# Altium schematic symbol library TNPW080510K0BXEN.SchLib: 1 symbol
Pins are listed as number, name and electrical type; pins without a type are passive.

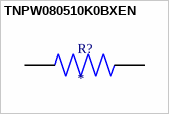
[diagram p0: symbol TNPW080510K0BXEN]

## TNPW080510K0BXEN
designator R?
10 kOhms Â±0.1% 0.125W, 1/8W Chip Resistor 0805 (2012 Metric) Anti-Sulfur, Automotive AEC-Q200, Moisture Resistant Thin Film; MF: Vishay; MP: TNPW080510K0BXEN; SnapEDA_Link: https://www.snapeda.com/parts/TNPW080510K0BXEN/Vishay/view-part/?ref=snap; Package: 2012 Vishay; Value: *; Check_prices: https://www.snapeda.com/parts/TNPW080510K0BXEN/Vishay/view-part/?ref=eda
footprint RESC2012X55N
pins: 1, 2